# Altium integrated library MargiLibrary.IntLib: 13 symbols
Pins are listed as number, name and electrical type; pins without a type are passive.

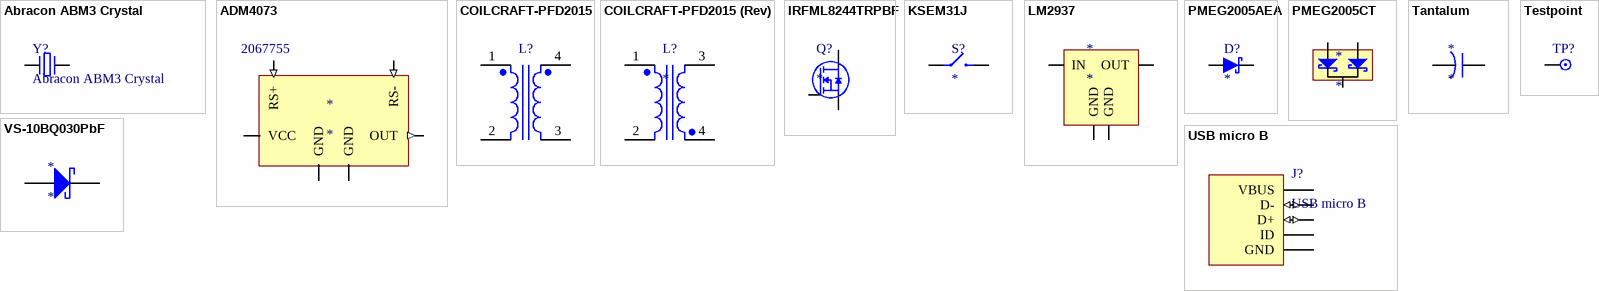
[diagram p0: symbols Abracon ABM3 Crystal to VS-10BQ030PbF]

## Abracon ABM3 Crystal
designator Y?
footprint ABM3
pins: 1, 2

## ADM4073
designator *  Supplier Part Number 1: 2067755
Supplier 1: Farnell
footprint ADM4073 - SOT95P280X145-6N (SOT23, 6-Leads, Body 2.90x2.80mm, Pitch 0.95mm, IPC Medium Density)
pins: 1 GND (power), 2 GND (power), 3 VCC (power), 4 RS+ (in), 5 RS- (in), 6 OUT (out)

## COILCRAFT-PFD2015
designator L?
footprint PFD2015 (Coupled inductor)
pins: 1, 2, 3, 4

## COILCRAFT-PFD2015 (Rev)
designator L?
Inductance@0A: *; Inductance@IpkA: *
footprint PFD2015 (Coupled inductor)
pins: 1, 2, 3, 4

## IRFML8244TRPBF
designator Q?
INTERNATIONAL RECTIFIER - IRFML8244TRPBF - N CH MOSFET, 25V, 5.8A, 3-SOT-23, FULL REEL; Transistor Polarity: N Channel; Continuous Drain Current Id: 5.8; Drain Source Voltage Vds: 25; On Resistance Rds(on): 20; Rds(on) Test Voltage Vgs: 10; Threshold Voltage Vgs: 1.7; Supplier 1: Farnell; Manufacturer: INTERNATIONAL RECTIFIER; Manufacturer Part Number: IRFML8244TRPBF; RoHS: YES; Pricing 1: 3000=0.24, 6000=0.22, 9000=0.21 (EUR); ComponentLink1URL: http://www.irf.com/product-info/datasheets/data/irfml8244pbf.pdf; ComponentLink1Description: http://www.irf.com/product-info/datasheets/data/irfml8244pbf.pdf
footprint SOT95P237X112-3N (SOT23, 3-Leads, Body 2.92x2.37mm, Pitch 0.95mm, IPC Medium Density)
pins: 1 G, 2 S, 3 D

## KSEM31J
designator S?
footprint KSEM31J (Tactile switch)
pins: 0, 1

## LM2937
designator *
footprint LM2937 - SOT230P700X180-4N (SOT223, 4-Leads, Body 6.50x7.00mm (avg), Pitch 2.30mm, IPC Medium Density)
pins: 1 IN (power), 2 GND (power), 3 OUT (power), 4 GND (power)

## PMEG2005AEA
designator D?
footprint SOD323F (SODFL, 2-Leads, Body 1.25x2.50mm, IPC Medium Density)
pins: 1 (power), 2 (power)

## PMEG2005CT
designator *
footprint PMEG2005CT - SOT95P230X110-3N (SOT23, 3-Leads, Body 2.90x2.30mm, Pitch 0.95mm, IPC Medium Density)
pins: 1, 2, 3

## Tantalum
designator *
footprint CAPMP3216X18N (Molded Capacitor, 2-Leads, Body 3.20x1.60mm, IPC Medium Density)
pins: 1 (power), 2 (power)

## Testpoint
designator TP?  (value not drawn)
footprint Hawin testpoint
pins: 0

## USB micro B
designator J?
footprint FCI MICRO USB B Receptable
pins: D+ (io), D- (io), GND (power), ID, Vbus VBUS (power)

## VS-10BQ030PbF
designator *
footprint VS-10BQ030PbF - DIOM4435X24N (Molded Diode, 2-Leads, Body 4.40x3.55mm, IPC Medium Density)
pins: 1, 2